# EAGLE library part STM32L071KBT6 (library ICs)
ARM® Cortex®-M0+ series Microcontroller IC 32-Bit 32MHz 128KB (128K x 8) FLASH 32-LQFP (7x7)
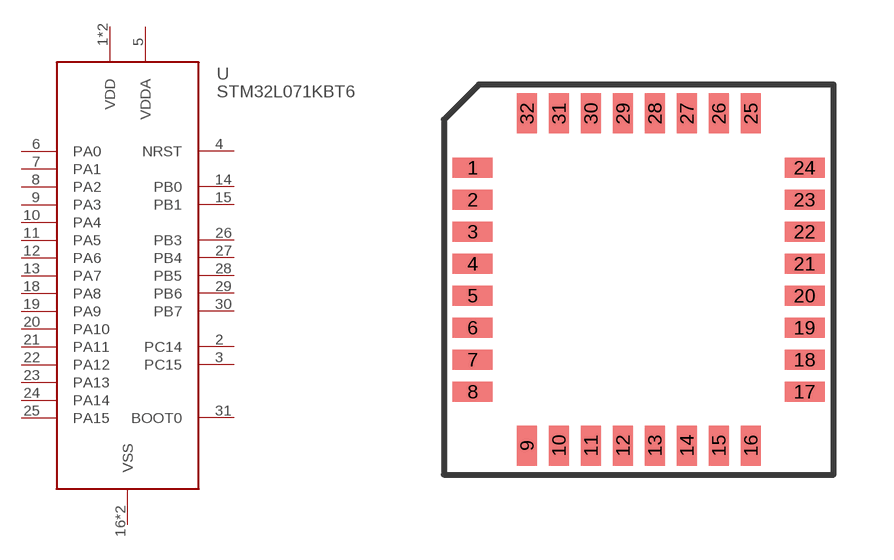
[diagram p284: symbol with the pads of QFP32_0.8MM; footprint QFP32_0.8MM]

Designator prefix U

## STM32L071KBT6 (DIGIKEY: 497-18577-ND; HEIGHT: 1.5; PRICE_PER: 3.66; VALUE: STM32L071KBT6)  [QFP32_0.8MM]
1  VDD
2  PC14
3  PC15
4  NRST
5  VDDA
6  PA0
7  PA1
8  PA2
9  PA3
10  PA4
11  PA5
12  PA6
13  PA7
14  PB0
15  PB1
16  VSS
17  VDD
18  PA8
19  PA9
20  PA10
21  PA11
22  PA12
23  PA13
24  PA14
25  PA15
26  PB3
27  PB4
28  PB5
29  PB6
30  PB7
31  BOOT0
32  VSS

## Footprint QFP32_0.8MM (pad centres in mm)
smd 1 x 0.5: 1 -4.15,2.8; 2 -4.15,2; 3 -4.15,1.2; 4 -4.15,0.4; 5 -4.15,-0.4; 6 -4.15,-1.2; 7 -4.15,-2; 8 -4.15,-2.8; 17 4.15,-2.8; 18 4.15,-2; 19 4.15,-1.2; 20 4.15,-0.4; 21 4.15,0.4; 22 4.15,1.2; 23 4.15,2; 24 4.15,2.8
smd 0.5 x 1: 9 -2.8,-4.15; 10 -2,-4.15; 11 -1.2,-4.15; 12 -0.4,-4.15; 13 0.4,-4.15; 14 1.2,-4.15; 15 2,-4.15; 16 2.8,-4.15; 25 2.8,4.15; 26 2,4.15; 27 1.2,4.15; 28 0.4,4.15; 29 -0.4,4.15; 30 -1.2,4.15; 31 -2,4.15; 32 -2.8,4.15